# Altium footprint library Capacitor_SMD.PcbLib: 103 footprints (part 1 of 7)
Each footprint in its own frame and in the unit in brackets; x right, y up, seen from the top. Pads: shape width x height; smd on the part's side, far side on the other; paste and mask are expansions set on the pad; w line width, h text height; cw(c..) or ccw(c..) is an arc to the next point about the centre after c.
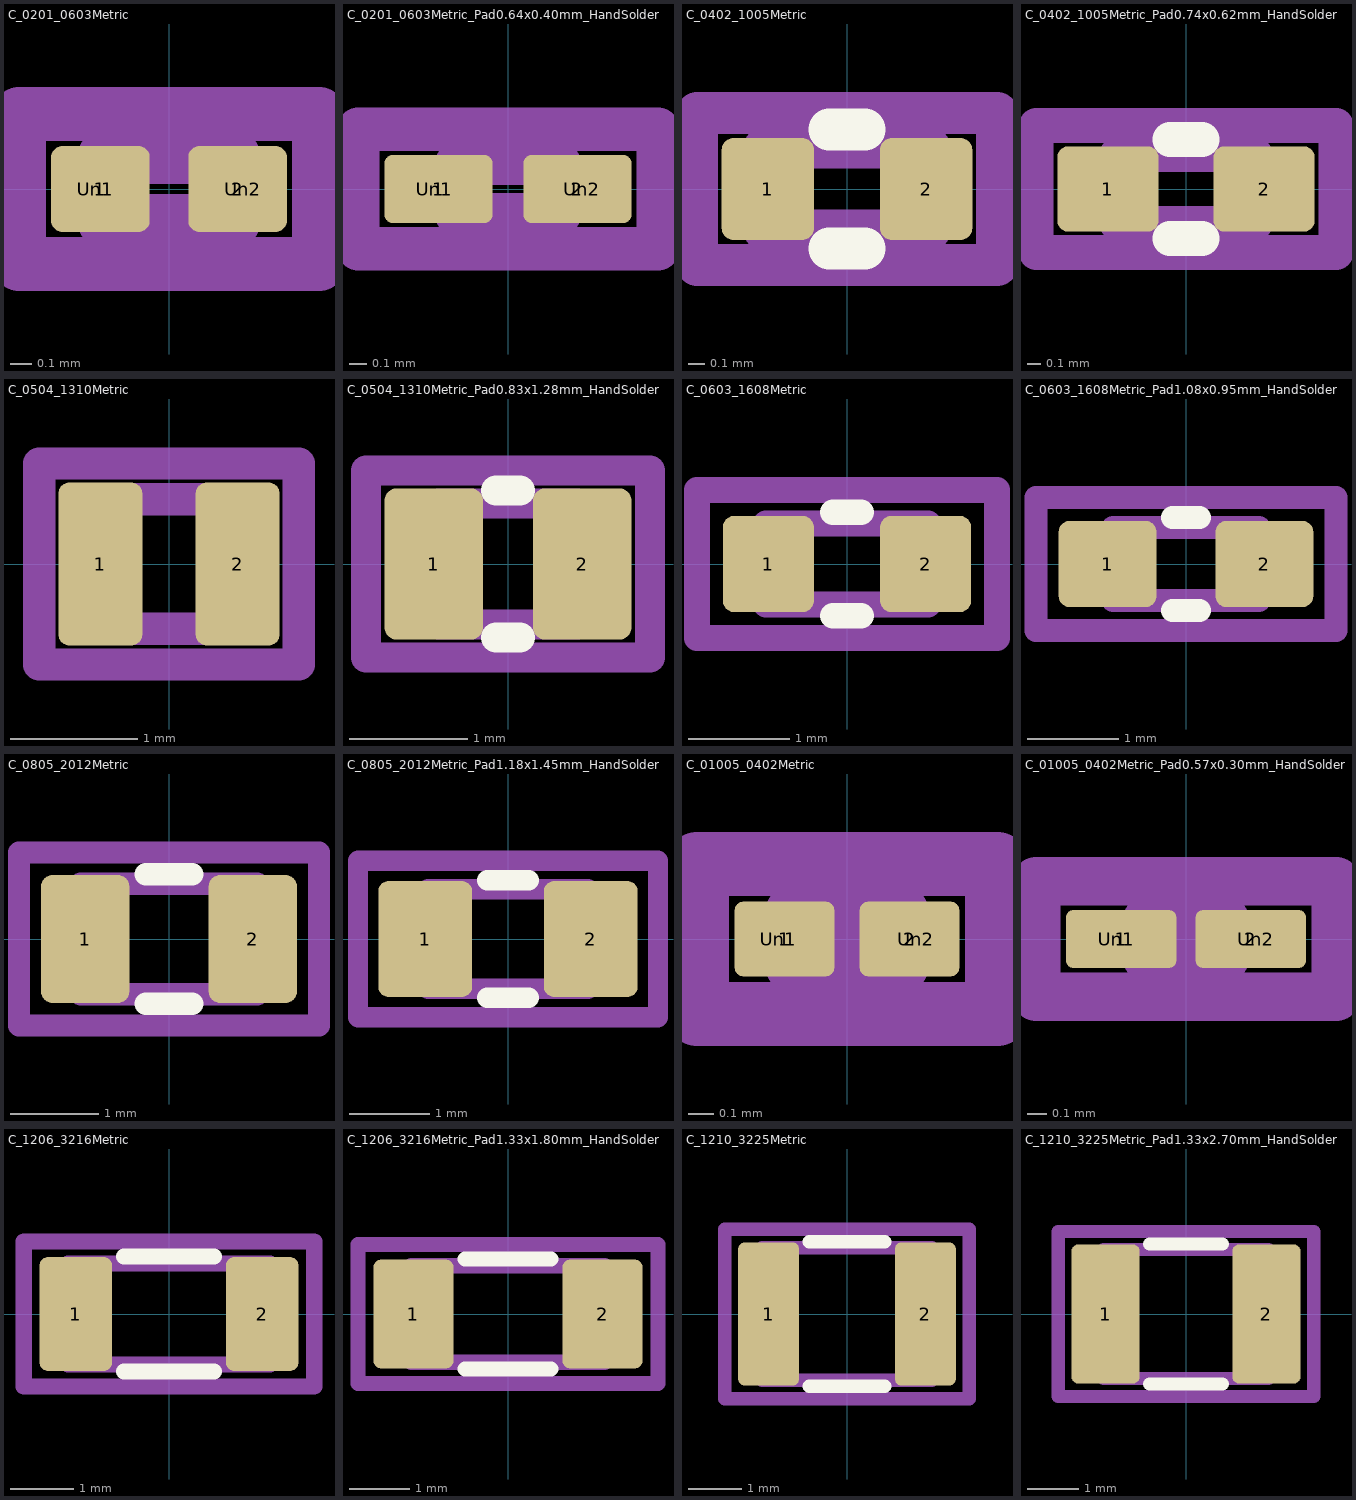
[diagram p0: the footprints below, top view; thin cyan lines are the x and y axes]

## C_0201_0603Metric [mm]
pads (4):
  rrect25% 0.46x0.4 smd: 1(-0.32,0) 2(0.32,0)
  rrect25% 0.318x0.36 on Top Paste: Un1(-0.345,0) Un2(0.345,0)
F.CrtYd:
  lines w0.254: -0.7,-0.35 -0.7,0.35 0.7,0.35 0.7,-0.35 -0.7,-0.35
F.Fab:
  lines w0.254: -0.3,-0.15 -0.3,0.15 0.3,0.15 0.3,-0.15 -0.3,-0.15
  text "'.Designator'" at -1.014,0.467 h0.25

## C_0201_0603Metric_Pad0.64x0.40mm_HandSolder [mm]
pads (4):
  rrect25% 0.635x0.4 smd: 1(-0.407,0) 2(0.407,0)
  rrect25% 0.458x0.36 on Top Paste: Un1(-0.433,0) Un2(0.433,0)
F.CrtYd:
  lines w0.254: -0.88,-0.35 -0.88,0.35 0.88,0.35 0.88,-0.35 -0.88,-0.35
F.Fab:
  lines w0.254: -0.3,-0.15 -0.3,0.15 0.3,0.15 0.3,-0.15 -0.3,-0.15
  text "'.Designator'" at -1.014,0.467 h0.25

## C_0402_1005Metric [mm]
pads (2):
  rrect25% 0.56x0.62 smd: 1(-0.48,0) 2(0.48,0)
F.SilkS:
  lines w0.254: -0.108,-0.36 0.108,-0.36 ; -0.108,0.36 0.108,0.36
F.CrtYd:
  lines w0.254: -0.91,-0.46 -0.91,0.46 0.91,0.46 0.91,-0.46 -0.91,-0.46
F.Fab:
  lines w0.254: -0.5,-0.25 -0.5,0.25 0.5,0.25 0.5,-0.25 -0.5,-0.25
  text "'.Designator'" at -1.014,-0.213 h0.25

## C_0402_1005Metric_Pad0.74x0.62mm_HandSolder [mm]
pads (2):
  rrect25% 0.735x0.62 smd: 1(-0.567,0) 2(0.567,0)
F.SilkS:
  lines w0.254: -0.116,-0.36 0.116,-0.36 ; -0.116,0.36 0.116,0.36
F.CrtYd:
  lines w0.254: -1.09,-0.46 -1.09,0.46 1.09,0.46 1.09,-0.46 -1.09,-0.46
F.Fab:
  lines w0.254: -0.5,-0.25 -0.5,0.25 0.5,0.25 0.5,-0.25 -0.5,-0.25
  text "'.Designator'" at -1.014,-0.213 h0.25

## C_0504_1310Metric [mm]
pads (2):
  rrect25% 0.66x1.28 smd: 1(-0.54,0) 2(0.54,0)
F.CrtYd:
  lines w0.254: -1.02,-0.79 -1.02,0.79 1.02,0.79 1.02,-0.79 -1.02,-0.79
F.Fab:
  lines w0.254: -0.585,-0.51 -0.585,0.51 0.585,0.51 0.585,-0.51 -0.585,-0.51
  text "'.Designator'" at -1.17,-0.24 h0.29

## C_0504_1310Metric_Pad0.83x1.28mm_HandSolder [mm]
pads (2):
  rrect25% 0.835x1.28 smd: 1(-0.627,0) 2(0.627,0)
F.SilkS:
  lines w0.254: -0.102,-0.62 0.102,-0.62 ; -0.102,0.62 0.102,0.62
F.CrtYd:
  lines w0.254: -1.2,-0.79 -1.2,0.79 1.2,0.79 1.2,-0.79 -1.2,-0.79
F.Fab:
  lines w0.254: -0.585,-0.51 -0.585,0.51 0.585,0.51 0.585,-0.51 -0.585,-0.51
  text "'.Designator'" at -1.17,-0.24 h0.29

## C_0603_1608Metric [mm]
pads (2):
  rrect25% 0.9x0.95 smd: 1(-0.775,0) 2(0.775,0)
F.SilkS:
  lines w0.254: -0.141,-0.51 0.141,-0.51 ; -0.141,0.51 0.141,0.51
F.CrtYd:
  lines w0.254: -1.48,-0.73 -1.48,0.73 1.48,0.73 1.48,-0.73 -1.48,-0.73
F.Fab:
  lines w0.254: -0.8,-0.4 -0.8,0.4 0.8,0.4 0.8,-0.4 -0.8,-0.4
  text "'.Designator'" at -1.619,-0.336 h0.4

## C_0603_1608Metric_Pad1.08x0.95mm_HandSolder [mm]
pads (2):
  rrect25% 1.075x0.95 smd: 1(-0.863,0) 2(0.863,0)
F.SilkS:
  lines w0.254: -0.146,-0.51 0.146,-0.51 ; -0.146,0.51 0.146,0.51
F.CrtYd:
  lines w0.254: -1.65,-0.73 -1.65,0.73 1.65,0.73 1.65,-0.73 -1.65,-0.73
F.Fab:
  lines w0.254: -0.8,-0.4 -0.8,0.4 0.8,0.4 0.8,-0.4 -0.8,-0.4
  text "'.Designator'" at -1.619,-0.336 h0.4

## C_0805_2012Metric [mm]
pads (2):
  rrect25% 1x1.45 smd: 1(-0.95,0) 2(0.95,0)
F.SilkS:
  lines w0.254: -0.261,-0.735 0.261,-0.735 ; -0.261,0.735 0.261,0.735
F.CrtYd:
  lines w0.254: -1.7,-0.98 -1.7,0.98 1.7,0.98 1.7,-0.98 -1.7,-0.98
F.Fab:
  lines w0.254: -1,-0.625 -1,0.625 1,0.625 1,-0.625 -1,-0.625
  text "'.Designator'" at -2.028,-0.425 h0.5

## C_0805_2012Metric_Pad1.18x1.45mm_HandSolder [mm]
pads (2):
  rrect21% 1.175x1.45 smd: 1(-1.038,0) 2(1.038,0)
F.SilkS:
  lines w0.254: -0.261,-0.735 0.261,-0.735 ; -0.261,0.735 0.261,0.735
F.CrtYd:
  lines w0.254: -1.88,-0.98 -1.88,0.98 1.88,0.98 1.88,-0.98 -1.88,-0.98
F.Fab:
  lines w0.254: -1,-0.625 -1,0.625 1,0.625 1,-0.625 -1,-0.625
  text "'.Designator'" at -2.028,-0.425 h0.5

## C_01005_0402Metric [mm]
pads (4):
  rrect25% 0.4x0.3 smd: 1(-0.25,0) 2(0.25,0)
  rrect25% 0.27x0.27 on Top Paste: Un1(-0.275,0) Un2(0.275,0)
F.CrtYd:
  lines w0.254: -0.6,-0.3 -0.6,0.3 0.6,0.3 0.6,-0.3 -0.6,-0.3
F.Fab:
  lines w0.254: -0.2,-0.1 -0.2,0.1 0.2,0.1 0.2,-0.1 -0.2,-0.1
  text "'.Designator'" at -1.014,0.407 h0.25

## C_01005_0402Metric_Pad0.57x0.30mm_HandSolder [mm]
pads (4):
  rrect25% 0.575x0.3 smd: 1(-0.337,0) 2(0.337,0)
  rrect25% 0.41x0.27 on Top Paste: Un1(-0.363,0) Un2(0.363,0)
F.CrtYd:
  lines w0.254: -0.78,-0.3 -0.78,0.3 0.78,0.3 0.78,-0.3 -0.78,-0.3
F.Fab:
  lines w0.254: -0.2,-0.1 -0.2,0.1 0.2,0.1 0.2,-0.1 -0.2,-0.1
  text "'.Designator'" at -1.014,0.407 h0.25

## C_1206_3216Metric [mm]
pads (2):
  rrect22% 1.15x1.8 smd: 1(-1.475,0) 2(1.475,0)
F.SilkS:
  lines w0.254: -0.711,-0.91 0.711,-0.91 ; -0.711,0.91 0.711,0.91
F.CrtYd:
  lines w0.254: -2.3,-1.15 -2.3,1.15 2.3,1.15 2.3,-1.15 -2.3,-1.15
F.Fab:
  lines w0.254: -1.6,-0.8 -1.6,0.8 1.6,0.8 1.6,-0.8 -1.6,-0.8
  text "'.Designator'" at -3.237,-0.672 h0.8

## C_1206_3216Metric_Pad1.33x1.80mm_HandSolder [mm]
pads (2):
  rrect19% 1.325x1.8 smd: 1(-1.562,0) 2(1.562,0)
F.SilkS:
  lines w0.254: -0.711,-0.91 0.711,-0.91 ; -0.711,0.91 0.711,0.91
F.CrtYd:
  lines w0.254: -2.48,-1.15 -2.48,1.15 2.48,1.15 2.48,-1.15 -2.48,-1.15
F.Fab:
  lines w0.254: -1.6,-0.8 -1.6,0.8 1.6,0.8 1.6,-0.8 -1.6,-0.8
  text "'.Designator'" at -3.237,-0.672 h0.8

## C_1210_3225Metric [mm]
pads (2):
  rrect22% 1.15x2.7 smd: 1(-1.475,0) 2(1.475,0)
F.SilkS:
  lines w0.254: -0.711,-1.36 0.711,-1.36 ; -0.711,1.36 0.711,1.36
F.CrtYd:
  lines w0.254: -2.3,-1.6 -2.3,1.6 2.3,1.6 2.3,-1.6 -2.3,-1.6
F.Fab:
  lines w0.254: -1.6,-1.25 -1.6,1.25 1.6,1.25 1.6,-1.25 -1.6,-1.25
  text "'.Designator'" at -3.237,-0.672 h0.8

## C_1210_3225Metric_Pad1.33x2.70mm_HandSolder [mm]
pads (2):
  rrect19% 1.325x2.7 smd: 1(-1.562,0) 2(1.562,0)
F.SilkS:
  lines w0.254: -0.711,-1.36 0.711,-1.36 ; -0.711,1.36 0.711,1.36
F.CrtYd:
  lines w0.254: -2.48,-1.6 -2.48,1.6 2.48,1.6 2.48,-1.6 -2.48,-1.6
F.Fab:
  lines w0.254: -1.6,-1.25 -1.6,1.25 1.6,1.25 1.6,-1.25 -1.6,-1.25
  text "'.Designator'" at -3.237,-0.672 h0.8